# Altium footprint library con-stocko.PCBLIB: 18 footprints (part 1 of 2)
Each footprint in its own frame and in the unit in brackets; x right, y up, seen from the top. Pads: shape width x height; smd on the part's side, far side on the other; paste and mask are expansions set on the pad; w line width, h text height; cw(c..) or ccw(c..) is an arc to the next point about the centre after c.
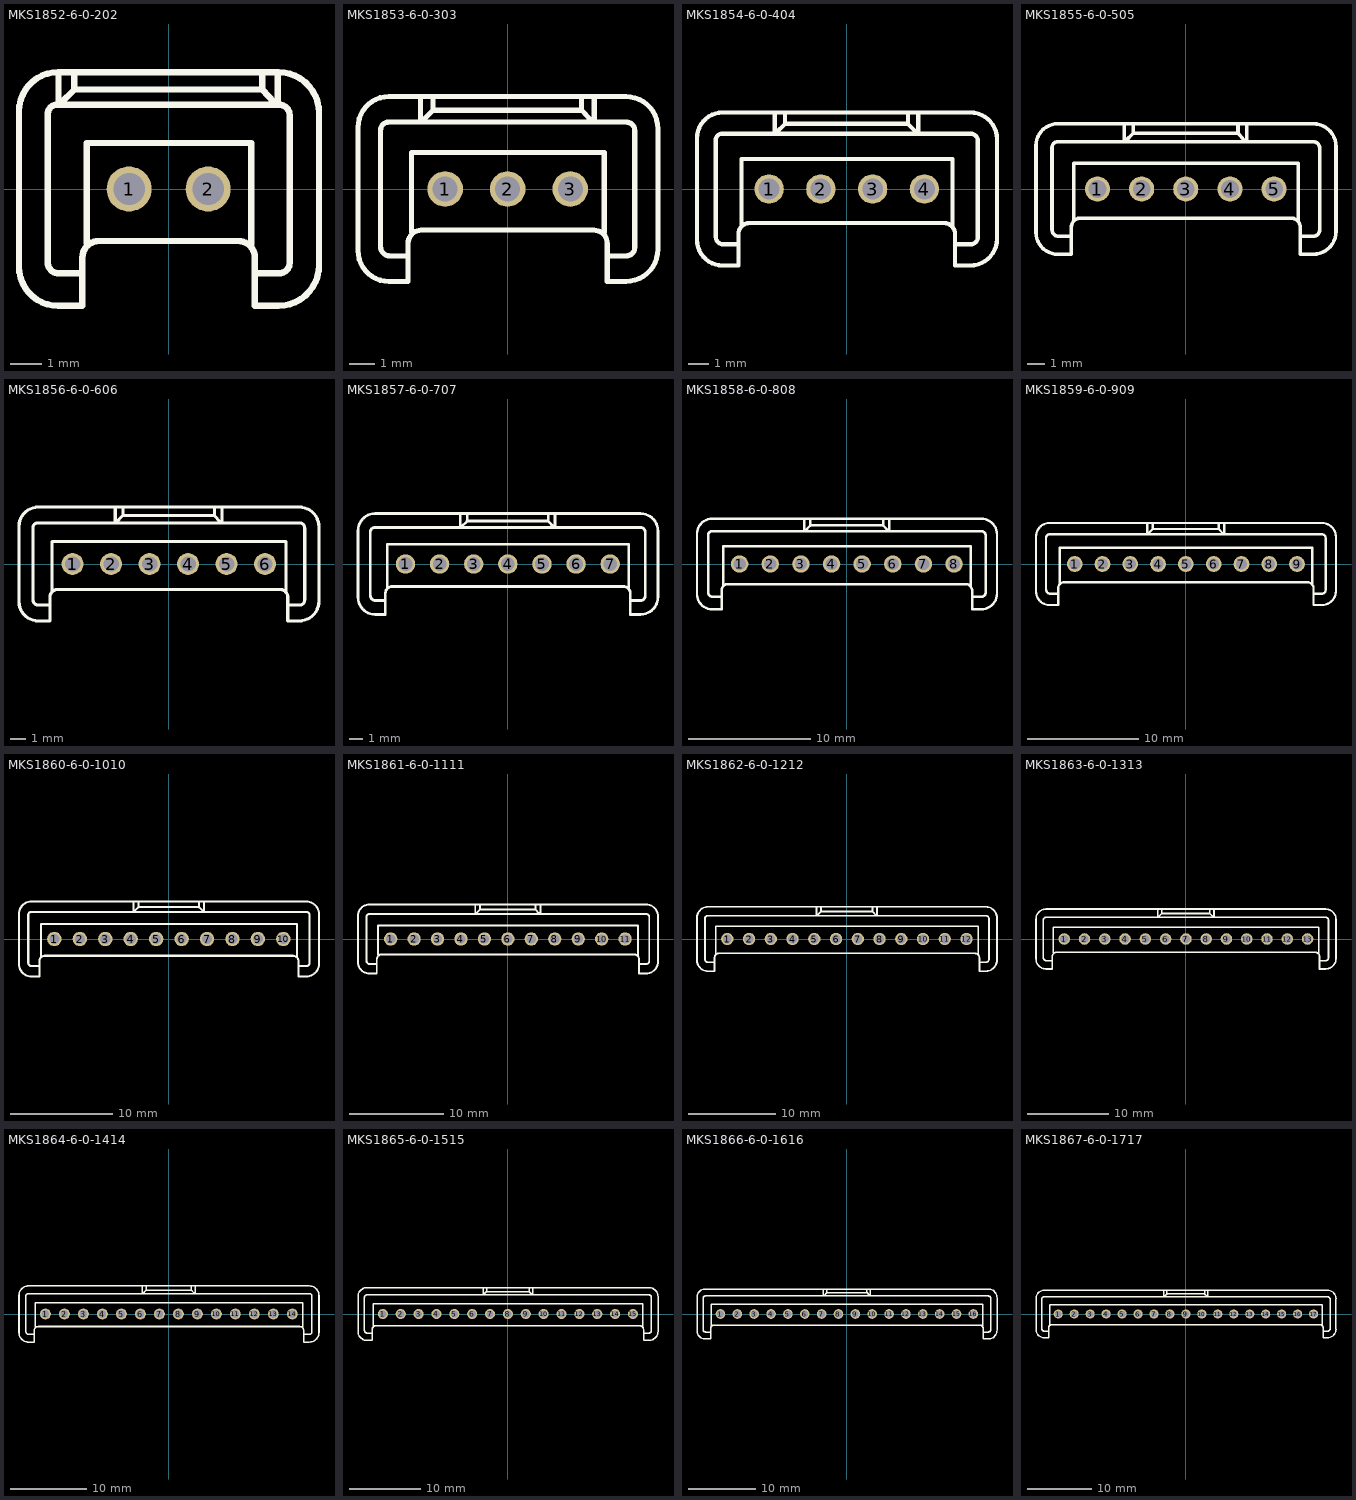
[diagram p0: the footprints below, top view; thin cyan lines are the x and y axes]

## MKS1852-6-0-202 [mil]
pads (2):
  round 56 hole 39.37: 1(-49.21,0) 2(49.21,0)
Top Overlay:
  lines w8: -137.05,107.95 -137.05,143.62 ; -133.29,107.95 -118.28,122.97 ; -117.33,142.68 -117.33,123.91 116.39,123.91 116.39,144.56 ; -108.35,-105.13 -136.51,-105.13 cw(c-136.51,-91.05) -150.59,-91.05 -150.59,92.93 cw(c-138.39,92.93) -138.39,105.13 137.44,105.13 cw(c137.44,91.98) 150.59,91.99 150.59,-91.98 cw(c137.44,-91.98) 137.44,-105.13 111.16,-105.13 ; -101.78,-67.58 -101.78,57.26 102.71,57.26 102.71,-68.52 ; 117.33,122.97 130.47,108.89 ; 136.1,107.95 136.1,142.68 ; -186.26,-96.68 ccw(c-137.45,-96.68) -137.45,-145.49 -107.41,-145.49 -107.41,-85.41 cw(c-86.76,-85.41) -86.76,-64.76 86.76,-64.76 cw(c86.76,-85.41) 107.41,-85.41 107.41,-145.49 136.5,-145.49 ccw(c136.5,-94.8) 187.19,-94.8 187.19,94.81 ccw(c136.5,94.81) 136.5,145.5 -137.45,145.5 ccw(c-137.45,96.69) -186.26,96.69 -186.26,-96.68

## MKS1853-6-0-303 [mil]
pads (3):
  round 56 hole 39.37: 1(-98.43,0) 2(0,0) 3(98.43,0)
Top Overlay:
  lines w8: -157.56,-105.13 -185.72,-105.13 cw(c-185.72,-91.05) -199.8,-91.05 -199.8,92.93 cw(c-187.6,92.93) -187.6,105.13 186.66,105.13 cw(c186.66,91.99) 199.8,91.99 199.8,-91.98 cw(c186.66,-91.98) 186.66,-105.13 160.37,-105.13 ; -151,-67.58 -151,57.26 151.93,57.26 151.93,-68.52 ; -137.05,107.95 -137.05,143.62 ; -133.29,107.95 -118.28,122.97 ; -117.33,142.68 -117.33,123.91 116.39,123.91 116.39,144.56 ; 117.33,122.97 130.47,108.89 ; 136.1,107.95 136.1,142.68 ; -235.47,-96.68 ccw(c-186.66,-96.68) -186.66,-145.49 -156.63,-145.49 -156.63,-85.41 cw(c-135.98,-85.41) -135.98,-64.76 135.97,-64.76 cw(c135.97,-85.41) 156.62,-85.41 156.62,-145.49 185.72,-145.49 ccw(c185.72,-94.8) 236.41,-94.8 236.41,94.81 ccw(c185.72,94.81) 185.72,145.5 -186.66,145.5 ccw(c-186.66,96.69) -235.47,96.69 -235.47,-96.68

## MKS1854-6-0-404 [mil]
pads (4):
  round 56 hole 39.37: 1(-147.64,0) 2(-49.21,0) 3(49.21,0) 4(147.64,0)
Top Overlay:
  lines w8: -206.78,-105.13 -234.94,-105.13 cw(c-234.94,-91.05) -249.02,-91.05 -249.02,92.93 cw(c-236.82,92.93) -236.82,105.13 235.87,105.13 cw(c235.87,91.99) 249.01,91.99 249.01,-91.98 cw(c235.87,-91.98) 235.87,-105.13 209.59,-105.13 ; -200.21,-67.58 -200.21,57.26 201.14,57.26 201.14,-68.52 ; -137.05,107.95 -137.05,143.62 ; -133.29,107.95 -118.28,122.97 ; -117.33,142.68 -117.33,123.91 116.39,123.91 116.39,144.56 ; 117.33,122.97 130.47,108.89 ; 136.1,107.95 136.1,142.68 ; -284.69,-96.68 ccw(c-235.88,-96.67) -235.87,-145.49 -205.84,-145.49 -205.84,-85.41 cw(c-185.19,-85.41) -185.19,-64.76 185.18,-64.76 cw(c185.18,-85.41) 205.83,-85.41 205.83,-145.49 234.93,-145.49 ccw(c234.93,-94.8) 285.62,-94.8 285.62,94.81 ccw(c234.93,94.81) 234.93,145.5 -235.87,145.5 ccw(c-235.88,96.69) -284.69,96.69 -284.69,-96.68

## MKS1855-6-0-505 [mil]
pads (5):
  round 56 hole 39.37: 1(-196.85,0) 2(-98.43,0) 3(0,0) 4(98.43,0) 5(196.85,0)
Top Overlay:
  lines w8: -255.99,-105.13 -284.15,-105.13 cw(c-284.15,-91.05) -298.23,-91.05 -298.23,92.93 cw(c-286.03,92.93) -286.03,105.13 285.08,105.13 cw(c285.08,91.99) 298.22,91.99 298.22,-91.98 cw(c285.07,-91.98) 285.08,-105.13 258.8,-105.13 ; -249.42,-67.58 -249.42,57.26 250.35,57.26 250.35,-68.52 ; -137.05,107.95 -137.05,143.62 ; -133.29,107.95 -118.28,122.97 ; -117.33,142.68 -117.33,123.91 116.39,123.91 116.39,144.56 ; 117.33,122.97 130.47,108.89 ; 136.1,107.95 136.1,142.68 ; -333.9,-96.68 ccw(c-285.09,-96.68) -285.09,-145.49 -255.05,-145.49 -255.05,-85.41 cw(c-234.4,-85.41) -234.4,-64.76 234.39,-64.76 cw(c234.39,-85.41) 255.04,-85.41 255.04,-145.49 284.14,-145.49 ccw(c284.14,-94.8) 334.83,-94.8 334.83,94.81 ccw(c284.14,94.81) 284.14,145.5 -285.09,145.5 ccw(c-285.09,96.69) -333.9,96.69 -333.9,-96.68

## MKS1856-6-0-606 [mil]
pads (6):
  round 56 hole 39.37: 1(-246.06,0) 2(-147.64,0) 3(-49.21,0) 4(49.21,0) 5(147.64,0) 6(246.06,0)
Top Overlay:
  lines w8: -305.2,-105.13 -333.36,-105.13 cw(c-333.36,-91.05) -347.44,-91.05 -347.44,92.93 cw(c-335.24,92.93) -335.24,105.13 334.3,105.13 cw(c334.3,91.99) 347.44,91.99 347.44,-91.98 cw(c334.3,-91.98) 334.3,-105.13 308.01,-105.13 ; -298.63,-67.58 -298.63,57.26 299.56,57.26 299.56,-68.52 ; -137.05,107.95 -137.05,143.62 ; -133.29,107.95 -118.28,122.97 ; -117.33,142.68 -117.33,123.91 116.39,123.91 116.39,144.56 ; 117.33,122.97 130.47,108.89 ; 136.1,107.95 136.1,142.68 ; -383.11,-96.68 ccw(c-334.3,-96.68) -334.3,-145.49 -304.26,-145.49 -304.26,-85.41 cw(c-283.61,-85.41) -283.61,-64.76 283.61,-64.76 cw(c283.61,-85.41) 304.26,-85.41 304.26,-145.49 333.35,-145.49 ccw(c333.35,-94.8) 384.04,-94.8 384.04,94.81 ccw(c333.35,94.81) 333.35,145.5 -334.3,145.5 ccw(c-334.3,96.69) -383.11,96.69 -383.11,-96.68

## MKS1857-6-0-707 [mil]
pads (7):
  round 56 hole 39.37: 1(-295.28,0) 2(-196.85,0) 3(-98.43,0) 4(0,0) 5(98.43,0) 6(196.85,0) 7(295.28,0)
Top Overlay:
  lines w8: -354.41,-105.13 -382.57,-105.13 cw(c-382.57,-91.05) -396.65,-91.05 -396.65,92.93 cw(c-384.45,92.93) -384.45,105.13 383.51,105.13 cw(c383.51,91.99) 396.65,91.99 396.65,-91.98 cw(c383.5,-91.98) 383.51,-105.13 357.22,-105.13 ; -347.85,-67.58 -347.85,57.26 348.78,57.26 348.78,-68.52 ; -137.05,107.95 -137.05,143.62 ; -133.29,107.95 -118.28,122.97 ; -117.33,142.68 -117.33,123.91 116.39,123.91 116.39,144.56 ; 117.33,122.97 130.47,108.89 ; 136.1,107.95 136.1,142.68 ; -432.32,-96.68 ccw(c-383.51,-96.68) -383.51,-145.49 -353.48,-145.49 -353.48,-85.41 cw(c-332.83,-85.41) -332.83,-64.76 332.82,-64.76 cw(c332.82,-85.41) 353.47,-85.41 353.47,-145.49 382.57,-145.49 ccw(c382.57,-94.8) 433.26,-94.8 433.26,94.81 ccw(c382.57,94.81) 382.57,145.5 -383.51,145.5 ccw(c-383.51,96.69) -432.32,96.69 -432.32,-96.68

## MKS1858-6-0-808 [mil]
pads (8):
  round 56 hole 39.37: 1(-344.49,0) 2(-246.06,0) 3(-147.64,0) 4(-49.21,0) 5(49.21,0) 6(147.64,0) 7(246.06,0) 8(344.49,0)
Top Overlay:
  lines w8: -403.63,-105.13 -431.79,-105.13 cw(c-431.79,-91.05) -445.87,-91.05 -445.87,92.93 cw(c-433.67,92.93) -433.67,105.13 432.72,105.13 cw(c432.72,91.99) 445.86,91.99 445.86,-91.98 cw(c432.71,-91.98) 432.72,-105.13 406.44,-105.13 ; -397.06,-67.58 -397.06,57.26 397.99,57.26 397.99,-68.52 ; -137.05,107.95 -137.05,143.62 ; -133.29,107.95 -118.28,122.97 ; -117.33,142.68 -117.33,123.91 116.39,123.91 116.39,144.56 ; 117.33,122.97 130.47,108.89 ; 136.1,107.95 136.1,142.68 ; -481.54,-96.68 ccw(c-432.73,-96.67) -432.72,-145.49 -402.69,-145.49 -402.69,-85.41 cw(c-382.04,-85.41) -382.04,-64.76 382.03,-64.76 cw(c382.03,-85.41) 402.68,-85.41 402.68,-145.49 431.78,-145.49 ccw(c431.78,-94.8) 482.47,-94.8 482.47,94.81 ccw(c431.78,94.81) 431.78,145.5 -432.72,145.5 ccw(c-432.73,96.69) -481.54,96.69 -481.54,-96.68

## MKS1859-6-0-909 [mil]
pads (9):
  round 56 hole 39.37: 1(-393.7,0) 2(-295.28,0) 3(-196.85,0) 4(-98.43,0) 5(0,0) 6(98.43,0) 7(196.85,0) 8(295.28,0) 9(393.7,0)
Top Overlay:
  lines w8: -452.84,-105.13 -481,-105.13 cw(c-481,-91.05) -495.08,-91.05 -495.08,92.93 cw(c-482.88,92.93) -482.88,105.13 481.93,105.13 cw(c481.93,91.99) 495.07,91.99 495.07,-91.98 cw(c481.93,-91.98) 481.93,-105.13 455.65,-105.13 ; -446.27,-67.58 -446.27,57.26 447.2,57.26 447.2,-68.52 ; -137.05,107.95 -137.05,143.62 ; -133.29,107.95 -118.28,122.97 ; -117.33,142.68 -117.33,123.91 116.39,123.91 116.39,144.56 ; 117.33,122.97 130.47,108.89 ; 136.1,107.95 136.1,142.68 ; -530.75,-96.68 ccw(c-481.94,-96.68) -481.94,-145.49 -451.9,-145.49 -451.9,-85.41 cw(c-431.25,-85.41) -431.25,-64.76 431.24,-64.76 cw(c431.24,-85.41) 451.89,-85.41 451.89,-145.49 480.99,-145.49 ccw(c480.99,-94.8) 531.68,-94.8 531.68,94.81 ccw(c480.99,94.81) 480.99,145.5 -481.94,145.5 ccw(c-481.94,96.69) -530.75,96.69 -530.75,-96.68

## MKS1860-6-0-1010 [mil]
pads (10):
  round 56 hole 39.37: 1(-442.91,0) 2(-344.49,0) 3(-246.06,0) 4(-147.64,0) 5(-49.21,0) 6(49.21,0) 7(147.64,0) 8(246.06,0) 9(344.49,0) 10(442.91,0)
Top Overlay:
  lines w8: -502.05,-105.13 -530.21,-105.13 cw(c-530.21,-91.05) -544.29,-91.05 -544.29,92.93 cw(c-532.09,92.93) -532.09,105.13 531.15,105.13 cw(c531.15,91.99) 544.29,91.99 544.29,-91.98 cw(c531.14,-91.98) 531.15,-105.13 504.86,-105.13 ; -495.48,-67.58 -495.48,57.26 496.41,57.26 496.41,-68.52 ; -137.05,107.95 -137.05,143.62 ; -133.29,107.95 -118.28,122.97 ; -117.33,142.68 -117.33,123.91 116.39,123.91 116.39,144.56 ; 117.33,122.97 130.47,108.89 ; 136.1,107.95 136.1,142.68 ; -579.96,-96.68 ccw(c-531.15,-96.68) -531.15,-145.49 -501.11,-145.49 -501.11,-85.41 cw(c-480.46,-85.41) -480.46,-64.76 480.46,-64.76 cw(c480.46,-85.41) 501.11,-85.41 501.11,-145.49 530.2,-145.49 ccw(c530.2,-94.8) 580.89,-94.8 580.89,94.81 ccw(c530.2,94.81) 530.2,145.5 -531.15,145.5 ccw(c-531.15,96.69) -579.96,96.69 -579.96,-96.68

## MKS1861-6-0-1111 [mil]
pads (11):
  round 56 hole 39.37: 1(-492.13,0) 2(-393.7,0) 3(-295.28,0) 4(-196.85,0) 5(-98.43,0) 6(0,0) 7(98.43,0) 8(196.85,0) 9(295.28,0) 10(393.7,0) 11(492.13,0)
Top Overlay:
  lines w8: -551.26,-105.13 -579.43,-105.13 cw(c-579.42,-91.06) -593.5,-91.05 -593.5,92.93 cw(c-581.3,92.93) -581.3,105.13 580.36,105.13 cw(c580.36,91.99) 593.5,91.99 593.5,-91.98 cw(c580.36,-91.98) 580.36,-105.13 554.07,-105.13 ; -544.7,-67.58 -544.7,57.26 545.63,57.26 545.63,-68.52 ; -137.05,107.95 -137.05,143.62 ; -133.29,107.95 -118.28,122.97 ; -117.33,142.68 -117.33,123.91 116.39,123.91 116.39,144.56 ; 117.33,122.97 130.47,108.89 ; 136.1,107.95 136.1,142.68 ; -629.17,-96.68 ccw(c-580.36,-96.68) -580.36,-145.49 -550.33,-145.49 -550.33,-85.41 cw(c-529.68,-85.41) -529.68,-64.76 529.67,-64.76 cw(c529.67,-85.41) 550.32,-85.41 550.32,-145.49 579.42,-145.49 ccw(c579.42,-94.8) 630.11,-94.8 630.11,94.81 ccw(c579.42,94.81) 579.42,145.5 -580.36,145.5 ccw(c-580.36,96.69) -629.17,96.69 -629.17,-96.68

## MKS1862-6-0-1212 [mil]
pads (12):
  round 56 hole 39.37: 1(-541.34,0) 2(-442.91,0) 3(-344.49,0) 4(-246.06,0) 5(-147.64,0) 6(-49.21,0) 7(49.21,0) 8(147.64,0) 9(246.06,0) 10(344.49,0) 11(442.91,0) 12(541.34,0)
Top Overlay:
  lines w8: -600.48,-105.13 -628.64,-105.13 cw(c-628.64,-91.05) -642.72,-91.05 -642.72,92.93 cw(c-630.52,92.93) -630.52,105.13 629.57,105.13 cw(c629.57,91.99) 642.71,91.99 642.71,-91.98 cw(c629.57,-91.98) 629.57,-105.13 603.29,-105.13 ; -593.91,-67.58 -593.91,57.26 594.84,57.26 594.84,-68.52 ; -137.05,107.95 -137.05,143.62 ; -133.29,107.95 -118.28,122.97 ; -117.33,142.68 -117.33,123.91 116.39,123.91 116.39,144.56 ; 117.33,122.97 130.47,108.89 ; 136.1,107.95 136.1,142.68 ; -678.39,-96.68 ccw(c-629.58,-96.67) -629.57,-145.49 -599.54,-145.49 -599.54,-85.41 cw(c-578.89,-85.41) -578.89,-64.76 578.88,-64.76 cw(c578.88,-85.41) 599.53,-85.41 599.53,-145.49 628.63,-145.49 ccw(c628.63,-94.8) 679.32,-94.8 679.32,94.81 ccw(c628.63,94.81) 628.63,145.5 -629.57,145.5 ccw(c-629.58,96.69) -678.39,96.69 -678.39,-96.68

## MKS1863-6-0-1313 [mil]
pads (13):
  round 56 hole 39.37: 1(-590.55,0) 2(-492.13,0) 3(-393.7,0) 4(-295.28,0) 5(-196.85,0) 6(-98.43,0) 7(0,0) 8(98.43,0) 9(196.85,0) 10(295.28,0) 11(393.7,0) 12(492.13,0) 13(590.55,0)
Top Overlay:
  lines w8: -649.69,-105.13 -677.85,-105.13 cw(c-677.85,-91.05) -691.93,-91.05 -691.93,92.93 cw(c-679.73,92.93) -679.73,105.13 678.78,105.13 cw(c678.78,91.98) 691.93,91.99 691.93,-91.98 cw(c678.78,-91.98) 678.78,-105.13 652.5,-105.13 ; -643.12,-67.58 -643.12,57.26 644.05,57.26 644.05,-68.52 ; -137.05,107.95 -137.05,143.62 ; -133.29,107.95 -118.28,122.97 ; -117.33,142.68 -117.33,123.91 116.39,123.91 116.39,144.56 ; 117.33,122.97 130.47,108.89 ; 136.1,107.95 136.1,142.68 ; -727.6,-96.68 ccw(c-678.79,-96.68) -678.79,-145.49 -648.75,-145.49 -648.75,-85.41 cw(c-628.1,-85.41) -628.1,-64.76 628.09,-64.76 cw(c628.09,-85.41) 648.74,-85.41 648.74,-145.49 677.84,-145.49 ccw(c677.84,-94.8) 728.53,-94.8 728.53,94.81 ccw(c677.84,94.81) 677.84,145.5 -678.79,145.5 ccw(c-678.79,96.69) -727.6,96.69 -727.6,-96.68

## MKS1864-6-0-1414 [mil]
pads (14):
  round 56 hole 39.37: 1(-639.76,0) 2(-541.34,0) 3(-442.91,0) 4(-344.49,0) 5(-246.06,0) 6(-147.64,0) 7(-49.21,0) 8(49.21,0) 9(147.64,0) 10(246.06,0) 11(344.49,0) 12(442.91,0) 13(541.34,0) 14(639.76,0)
Top Overlay:
  lines w8: -698.9,-105.13 -727.06,-105.13 cw(c-727.06,-91.05) -741.14,-91.05 -741.14,92.93 cw(c-728.94,92.93) -728.94,105.13 728,105.13 cw(c728,91.99) 741.14,91.99 741.14,-91.98 cw(c728,-91.98) 728,-105.13 701.71,-105.13 ; -692.33,-67.58 -692.33,57.26 693.26,57.26 693.26,-68.52 ; -137.05,107.95 -137.05,143.62 ; -133.29,107.95 -118.28,122.97 ; -117.33,142.68 -117.33,123.91 116.39,123.91 116.39,144.56 ; 117.33,122.97 130.47,108.89 ; 136.1,107.95 136.1,142.68 ; -776.81,-96.68 ccw(c-728,-96.68) -728,-145.49 -697.96,-145.49 -697.96,-85.41 cw(c-677.32,-85.41) -677.32,-64.76 677.31,-64.76 cw(c677.31,-85.41) 697.96,-85.41 697.96,-145.49 727.06,-145.49 ccw(c727.05,-94.81) 777.74,-94.8 777.74,94.81 ccw(c727.05,94.81) 727.06,145.5 -728,145.5 ccw(c-728,96.69) -776.81,96.69 -776.81,-96.68

## MKS1865-6-0-1515 [mil]
pads (15):
  round 56 hole 39.37: 1(-688.98,0) 2(-590.55,0) 3(-492.13,0) 4(-393.7,0) 5(-295.28,0) 6(-196.85,0) 7(-98.43,0) 8(0,0) 9(98.43,0) 10(196.85,0) 11(295.28,0) 12(393.7,0) 13(492.13,0) 14(590.55,0) 15(688.98,0)
Top Overlay:
  lines w8: -748.11,-105.13 -776.28,-105.13 cw(c-776.27,-91.06) -790.35,-91.05 -790.35,92.93 cw(c-778.15,92.93) -778.15,105.13 777.21,105.13 cw(c777.21,91.99) 790.35,91.99 790.35,-91.98 cw(c777.21,-91.98) 777.21,-105.13 750.93,-105.13 ; -741.55,-67.58 -741.55,57.26 742.48,57.26 742.48,-68.52 ; -137.05,107.95 -137.05,143.62 ; -133.29,107.95 -118.28,122.97 ; -117.33,142.68 -117.33,123.91 116.39,123.91 116.39,144.56 ; 117.33,122.97 130.47,108.89 ; 136.1,107.95 136.1,142.68 ; -826.02,-96.68 ccw(c-777.21,-96.68) -777.21,-145.49 -747.18,-145.49 -747.18,-85.41 cw(c-726.53,-85.41) -726.53,-64.76 726.52,-64.76 cw(c726.52,-85.41) 747.17,-85.41 747.17,-145.49 776.27,-145.49 ccw(c776.27,-94.8) 826.96,-94.8 826.96,94.81 ccw(c776.27,94.81) 776.27,145.5 -777.21,145.5 ccw(c-777.21,96.69) -826.02,96.69 -826.02,-96.68

## MKS1866-6-0-1616 [mil]
pads (16):
  round 56 hole 39.37: 1(-738.19,0) 2(-639.76,0) 3(-541.34,0) 4(-442.91,0) 5(-344.49,0) 6(-246.06,0) 7(-147.64,0) 8(-49.21,0) 9(49.21,0) 10(147.64,0) 11(246.06,0) 12(344.49,0) 13(442.91,0) 14(541.34,0) 15(639.76,0) 16(738.19,0)
Top Overlay:
  lines w8: -797.33,-105.13 -825.49,-105.13 cw(c-825.49,-91.05) -839.57,-91.05 -839.57,92.93 cw(c-827.37,92.93) -827.37,105.13 826.42,105.13 cw(c826.42,91.99) 839.56,91.99 839.56,-91.98 cw(c826.41,-91.98) 826.42,-105.13 800.14,-105.13 ; -790.76,-67.58 -790.76,57.26 791.69,57.26 791.69,-68.52 ; -137.05,107.95 -137.05,143.62 ; -133.29,107.95 -118.28,122.97 ; -117.33,142.68 -117.33,123.91 116.39,123.91 116.39,144.56 ; 117.33,122.97 130.47,108.89 ; 136.1,107.95 136.1,142.68 ; -875.24,-96.68 ccw(c-826.43,-96.68) -826.43,-145.49 -796.39,-145.49 -796.39,-85.41 cw(c-775.74,-85.41) -775.74,-64.76 775.73,-64.76 cw(c775.73,-85.41) 796.38,-85.41 796.38,-145.49 825.48,-145.49 ccw(c825.48,-94.8) 876.17,-94.8 876.17,94.81 ccw(c825.48,94.81) 825.48,145.5 -826.43,145.5 ccw(c-826.43,96.69) -875.24,96.69 -875.24,-96.68

## MKS1867-6-0-1717 [mil]
pads (17):
  round 56 hole 39.37: 1(-787.4,0) 2(-688.98,0) 3(-590.55,0) 4(-492.13,0) 5(-393.7,0) 6(-295.28,0) 7(-196.85,0) 8(-98.43,0) 9(0,0) 10(98.43,0) 11(196.85,0) 12(295.28,0) 13(393.7,0) 14(492.13,0) 15(590.55,0) 16(688.98,0) 17(787.4,0)
Top Overlay:
  lines w8: -846.54,-105.13 -874.7,-105.13 cw(c-874.7,-91.05) -888.78,-91.05 -888.78,92.93 cw(c-876.58,92.93) -876.58,105.13 875.63,105.13 cw(c875.63,91.98) 888.78,91.99 888.78,-91.98 cw(c875.63,-91.98) 875.63,-105.13 849.35,-105.13 ; -839.97,-67.58 -839.97,57.26 840.9,57.26 840.9,-68.52 ; -137.05,107.95 -137.05,143.62 ; -133.29,107.95 -118.28,122.97 ; -117.33,142.68 -117.33,123.91 116.39,123.91 116.39,144.56 ; 117.33,122.97 130.47,108.89 ; 136.1,107.95 136.1,142.68 ; -924.45,-96.68 ccw(c-875.64,-96.68) -875.64,-145.49 -845.6,-145.49 -845.6,-85.41 cw(c-824.95,-85.41) -824.95,-64.76 824.94,-64.76 cw(c824.94,-85.41) 845.59,-85.41 845.59,-145.49 874.69,-145.49 ccw(c874.69,-94.8) 925.38,-94.8 925.38,94.81 ccw(c874.69,94.81) 874.69,145.5 -875.64,145.5 ccw(c-875.64,96.69) -924.45,96.69 -924.45,-96.68